# Altium schematic symbol library n-mosfet-SSSGD.Schlib: 1 symbol
Pins are listed as number, name and electrical type; pins without a type are passive.

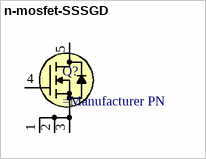
[diagram p0: symbol n-mosfet-SSSGD]

## n-mosfet-SSSGD
designator Q?
N-Channel MOSFET GDS w/ Body Diode 5 Terminal,
pins: 1 S, 2 S, 3 S, 4 G, 5 D